# EAGLE library part PIC18F4550 (library microcontrollers)
PIC18F Flash Microcontroller with USB port
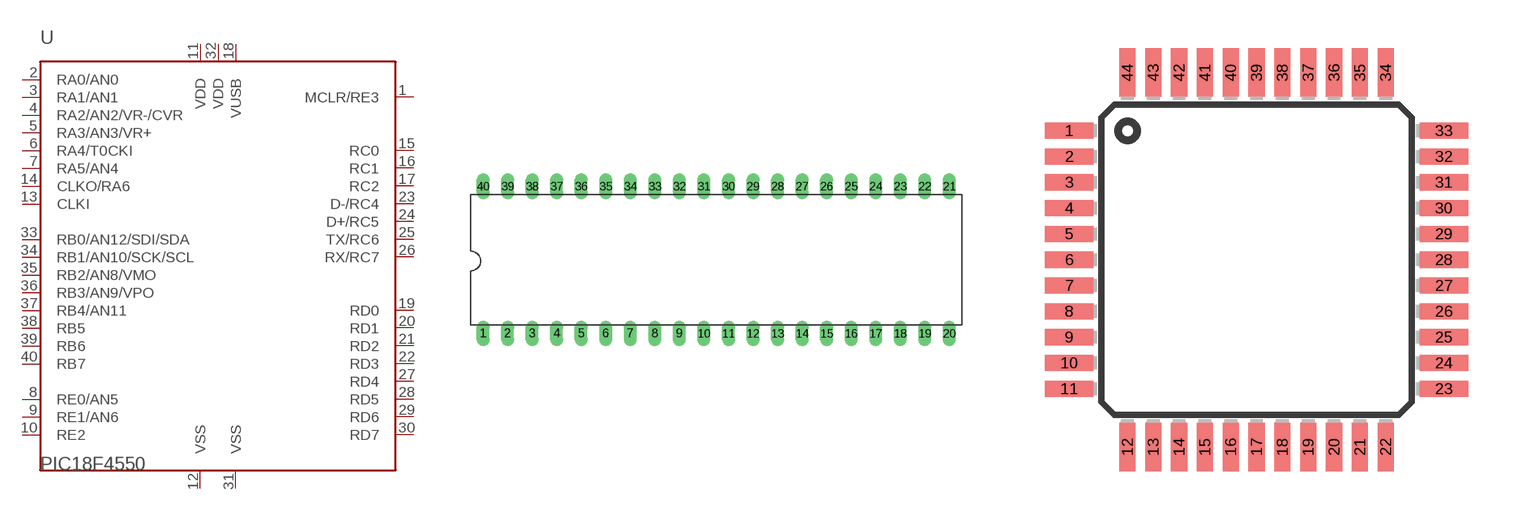
[diagram p8: symbol with the pads of DIL40; footprints DIL40, TQFP44]

Designator prefix -

## PIC18F4550SP  [DIL40]
1  MCLR/RE3  in
2  RA0/AN0
3  RA1/AN1
4  RA2/AN2/VR-/CVR
5  RA3/AN3/VR+
6  RA4/T0CKI
7  RA5/AN4
8  RE0/AN5
9  RE1/AN6
10  RE2
11  VDD  pwr
12  VSS  pwr
13  CLKI  in
14  CLKO/RA6
15  RC0
16  RC1
17  RC2
18  VUSB  pwr
19  RD0
20  RD1
21  RD2
22  RD3
23  D-/RC4
24  D+/RC5
25  TX/RC6
26  RX/RC7
27  RD4
28  RD5
29  RD6
30  RD7
31  VSS  pwr
32  VDD  pwr
33  RB0/AN12/SDI/SDA
34  RB1/AN10/SCK/SCL
35  RB2/AN8/VMO
36  RB3/AN9/VPO
37  RB4/AN11
38  RB5
39  RB6
40  RB7

## PIC18F4550TQ-44  [TQFP44]
1  RX/RC7
2  RD4
3  RD5
4  RD6
5  RD7
6  VSS  pwr
7  VDD  pwr
8  RB0/AN12/SDI/SDA
9  RB1/AN10/SCK/SCL
10  RB2/AN8/VMO
11  RB3/AN9/VPO
14  RB4/AN11
15  RB5
16  RB6
17  RB7
18  MCLR/RE3  in
19  RA0/AN0
20  RA1/AN1
21  RA2/AN2/VR-/CVR
22  RA3/AN3/VR+
23  RA4/T0CKI
24  RA5/AN4
25  RE0/AN5
26  RE1/AN6
27  RE2
28  VDD  pwr
29  VSS  pwr
30  CLKI  in
31  CLKO/RA6
32  RC0
35  RC1
36  RC2
37  VUSB  pwr
38  RD0
39  RD1
40  RD2
41  RD3
42  D-/RC4
43  D+/RC5
44  TX/RC6

## PIC18F4550ML  [QFN44-8X8]
1  RX/RC7
2  RD4
3  RD5
4  RD6
5  RD7
6  VSS  pwr
8  VDD  pwr
9  RB0/AN12/SDI/SDA
10  RB1/AN10/SCK/SCL
11  RB2/AN8/VMO
12  RB3/AN9/VPO
14  RB4/AN11
15  RB5
16  RB6
17  RB7
18  MCLR/RE3  in
19  RA0/AN0
20  RA1/AN1
21  RA2/AN2/VR-/CVR
22  RA3/AN3/VR+
23  RA4/T0CKI
24  RA5/AN4
25  RE0/AN5
26  RE1/AN6
27  RE2
29  VDD  pwr
31  VSS  pwr
32  CLKI  in
33  CLKO/RA6
34  RC0
35  RC1
36  RC2
37  VUSB  pwr
38  RD0
39  RD1
40  RD2
41  RD3
42  D-/RC4
43  D+/RC5
44  TX/RC6

## Footprint DIL40 (pad centres in mm)
drill 0.813 long: 1 -24.13,-7.62; 2 -21.59,-7.62; 3 -19.05,-7.62; 4 -16.51,-7.62; 5 -13.97,-7.62; 6 -11.43,-7.62; 7 -8.89,-7.62; 8 -6.35,-7.62; 9 -3.81,-7.62; 10 -1.27,-7.62; 11 1.27,-7.62; 12 3.81,-7.62; 13 6.35,-7.62; 14 8.89,-7.62; 15 11.43,-7.62; 16 13.97,-7.62; 17 16.51,-7.62; 18 19.05,-7.62; 19 21.59,-7.62; 20 24.13,-7.62; 21 24.13,7.62; 22 21.59,7.62; 23 19.05,7.62; 24 16.51,7.62; 25 13.97,7.62; 26 11.43,7.62; 27 8.89,7.62; 28 6.35,7.62; 29 3.81,7.62; 30 1.27,7.62; 31 -1.27,7.62; 32 -3.81,7.62; 33 -6.35,7.62; 34 -8.89,7.62; 35 -11.43,7.62; 36 -13.97,7.62; 37 -16.51,7.62; 38 -19.05,7.62; 39 -21.59,7.62; 40 -24.13,7.62

## Footprint TQFP44 (pad centres in mm)
Thin Quad Flat Pack package type TQ
smd 1.5 x 0.5: 1 -5.8,4; 2 -5.8,3.2; 3 -5.8,2.4; 4 -5.8,1.6; 5 -5.8,0.8; 6 -5.8,0; 7 -5.8,-0.8; 8 -5.8,-1.6; 9 -5.8,-2.4; 10 -5.8,-3.2; 11 -5.8,-4; 23 5.8,-4; 24 5.8,-3.2; 25 5.8,-2.4; 26 5.8,-1.6; 27 5.8,-0.8; 28 5.8,0; 29 5.8,0.8; 30 5.8,1.6; 31 5.8,2.4; 32 5.8,3.2; 33 5.8,4
smd 0.5 x 1.5: 12 -4,-5.8; 13 -3.2,-5.8; 14 -2.4,-5.8; 15 -1.6,-5.8; 16 -0.8,-5.8; 17 0,-5.8; 18 0.8,-5.8; 19 1.6,-5.8; 20 2.4,-5.8; 21 3.2,-5.8; 22 4,-5.8; 34 4,5.8; 35 3.2,5.8; 36 2.4,5.8; 37 1.6,5.8; 38 0.8,5.8; 39 0,5.8; 40 -0.8,5.8; 41 -1.6,5.8; 42 -2.4,5.8; 43 -3.2,5.8; 44 -4,5.8

## Footprint QFN44-8X8 (pad centres in mm)
Quad Flat No Lead
smd 0.6 x 0.37: 1 3.825,-3.25; 2 3.825,-2.6; 3 3.825,-1.95; 4 3.825,-1.3; 5 3.825,-0.65; 6 3.825,0; 7 3.825,0.65; 8 3.825,1.3; 9 3.825,1.95; 10 3.825,2.6; 11 3.825,3.25; 23 -3.825,3.25; 24 -3.825,2.6; 25 -3.825,1.95; 26 -3.825,1.3; 27 -3.825,0.65; 28 -3.825,0; 29 -3.825,-0.65; 30 -3.825,-1.3; 31 -3.825,-1.95; 32 -3.825,-2.6; 33 -3.825,-3.25
smd 0.37 x 0.6: 12 3.25,3.825; 13 2.6,3.825; 14 1.95,3.825; 15 1.3,3.825; 16 0.65,3.825; 17 0,3.825; 18 -0.65,3.825; 19 -1.3,3.825; 20 -1.95,3.825; 21 -2.6,3.825; 22 -3.25,3.825; 34 -3.25,-3.825; 35 -2.6,-3.825; 36 -1.95,-3.825; 37 -1.3,-3.825; 38 -0.65,-3.825; 39 0,-3.825; 40 0.65,-3.825; 41 1.3,-3.825; 42 1.95,-3.825; 43 2.6,-3.825; 44 3.25,-3.825